# Altium footprint library Selfie.PcbLib: 1 footprints
Each footprint in its own frame and in the unit in brackets; x right, y up, seen from the top. Pads: shape width x height; smd on the part's side, far side on the other; paste and mask are expansions set on the pad; w line width, h text height; cw(c..) or ccw(c..) is an arc to the next point about the centre after c.
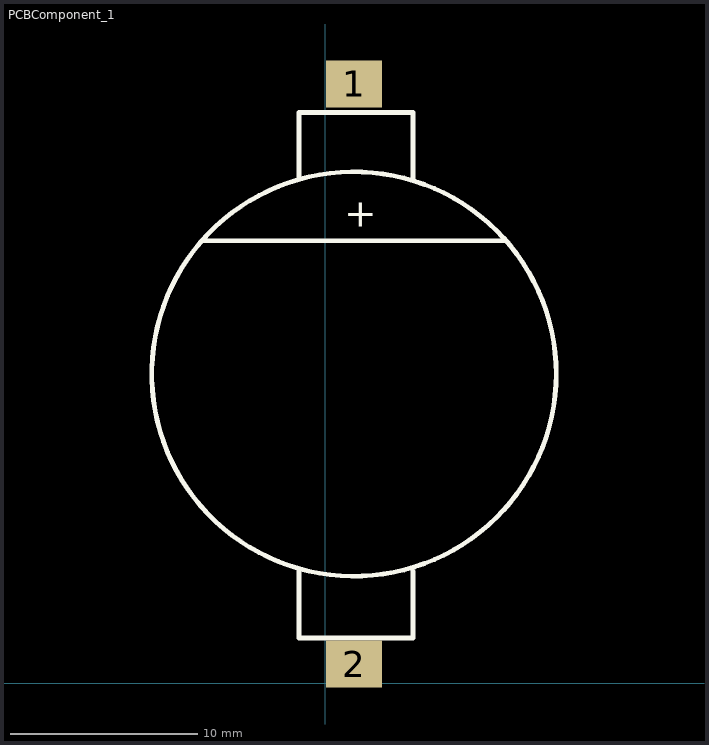
[diagram p0: the footprint, top view; thin cyan lines are the x and y axes]

## PCBComponent_1 [mm]
pads (2):
  rect 3x2.5 smd: 1(1.546,32.004) 2(1.546,1.016)
Top Overlay:
  circle w0.254: c1.546,16.51 r10.8
  lines w0.254: -6.477,23.622 9.652,23.622 ; -1.397,5.969 -1.397,2.413 4.699,2.413 4.699,5.969 ; -1.397,26.924 -1.397,30.48 4.699,30.48 4.699,26.924
  text "+" at 1.016,24.384 h1.52